# Altium schematic symbol library MT41K256M16TW.SchLib: 1 symbol
Pins are listed as number, name and electrical type; pins without a type are passive.

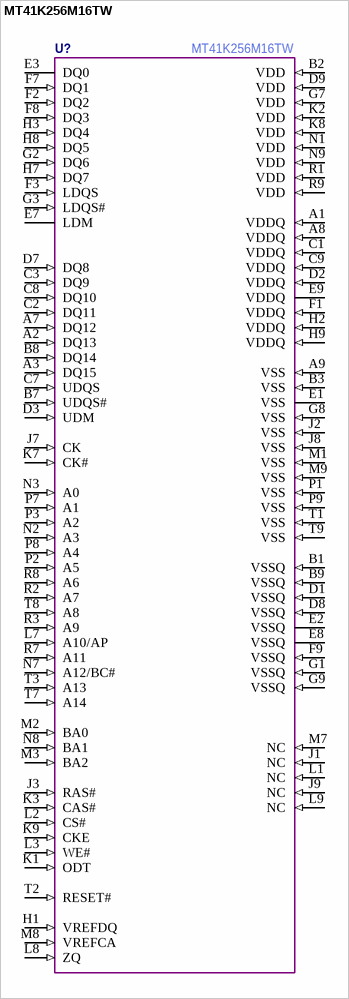
[diagram p0: symbol MT41K256M16TW]

## MT41K256M16TW
designator U?  Manufacturer Part Number: MT41K256M16TW  (hidden comment: *)
pins: A1 VDDQ (in), A2 DQ13 (in), A3 DQ15 (in), A7 DQ12 (in), A8 VDDQ (in), A9 VSS (in), B1 VSSQ (in), B2 VDD (in), B3 VSS (in), B7 UDQS# (in), B8 DQ14 (in), B9 VSSQ (in), C1 VDDQ (in), C2 DQ11 (in), C3 DQ9 (in), C7 UDQS (in), C8 DQ10 (in), C9 VDDQ (in), D1 VSSQ (in), D2 VDDQ (in), D3 UDM (in), D7 DQ8 (in), D8 VSSQ (in), D9 VDD (in), E1 VSS, E2 VSSQ, E3 DQ0, E7 LDM, E8 VSSQ, E9 VDDQ, F1 VDDQ (in), F2 DQ2 (in), F3 LDQS (in), F7 DQ1 (in), F8 DQ3 (in), F9 VSSQ (in), G1 VSSQ (in), G2 DQ6 (in), G3 LDQS# (in), G7 VDD (in), G8 VSS (in), G9 VSSQ (in), H1 VREFDQ (in), H2 VDDQ (in), H3 DQ4 (in), H7 DQ7 (in), H8 DQ5 (in), H9 VDDQ (in), J1 NC (in), J2 VSS (in), J3 RAS# (in), J7 CK (in), J8 VSS (in), J9 NC (in), K1 ODT (in), K2 VDD (in), K3 CAS# (in), K7 CK# (in), K8 VDD (in), K9 CKE (in), L1 NC (in), L2 CS# (in), L3 WE# (in), L7 A10/AP (in), L8 ZQ (in), L9 NC (in), M1 VSS (in), M2 BA0 (in), M3 BA2 (in), M7 NC (in), M8 VREFCA (in), M9 VSS (in), N1 VDD (in), N2 A3 (in), N3 A0 (in), N7 A12/BC# (in), N8 BA1 (in), N9 VDD (in), P1 VSS (in), P2 A5 (in), P3 A2 (in), P7 A1 (in), P8 A4 (in), P9 VSS (in), R1 VDD (in), R2 A7 (in), R3 A9 (in), R7 A11 (in), R8 A6 (in), R9 VDD (in), T1 VSS (in), T2 RESET# (in), T3 A13 (in), T7 A14 (in), T8 A8 (in), T9 VSS (in)